# EAGLE library part RN09SRT-SMD (library house)
Surface Mount Single Row Termination Resistor Network
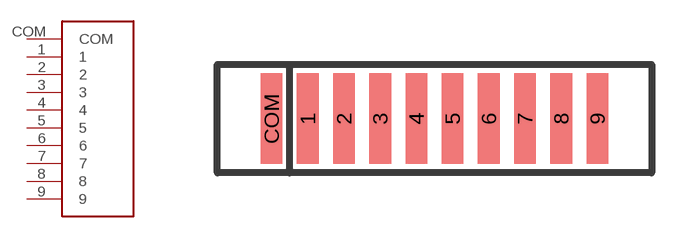
[diagram p1: symbol with the pads of SRT-SMD10; footprint SRT-SMD10]

Designator prefix 752-

## RN09SRT-SMD101-  [SRT-SMD10]
1  1
2  2
3  3
4  4
5  5
6  6
7  7
8  8
9  9
COM  COM

## Footprint SRT-SMD10 (pad centres in mm)
smd 0.76 x 3.18: 1 -3.81,0; 2 -2.54,0; 3 -1.27,0; 4 0,0; 5 1.27,0; 6 2.54,0; 7 3.81,0; 8 5.08,0; 9 6.35,0; COM -5.08,0